# Altium footprint library PCB库.PcbLib: 37 footprints (part 2 of 3)
Each footprint in its own frame and in the unit in brackets; x right, y up, seen from the top. Pads: shape width x height; smd on the part's side, far side on the other; paste and mask are expansions set on the pad; w line width, h text height; cw(c..) or ccw(c..) is an arc to the next point about the centre after c.
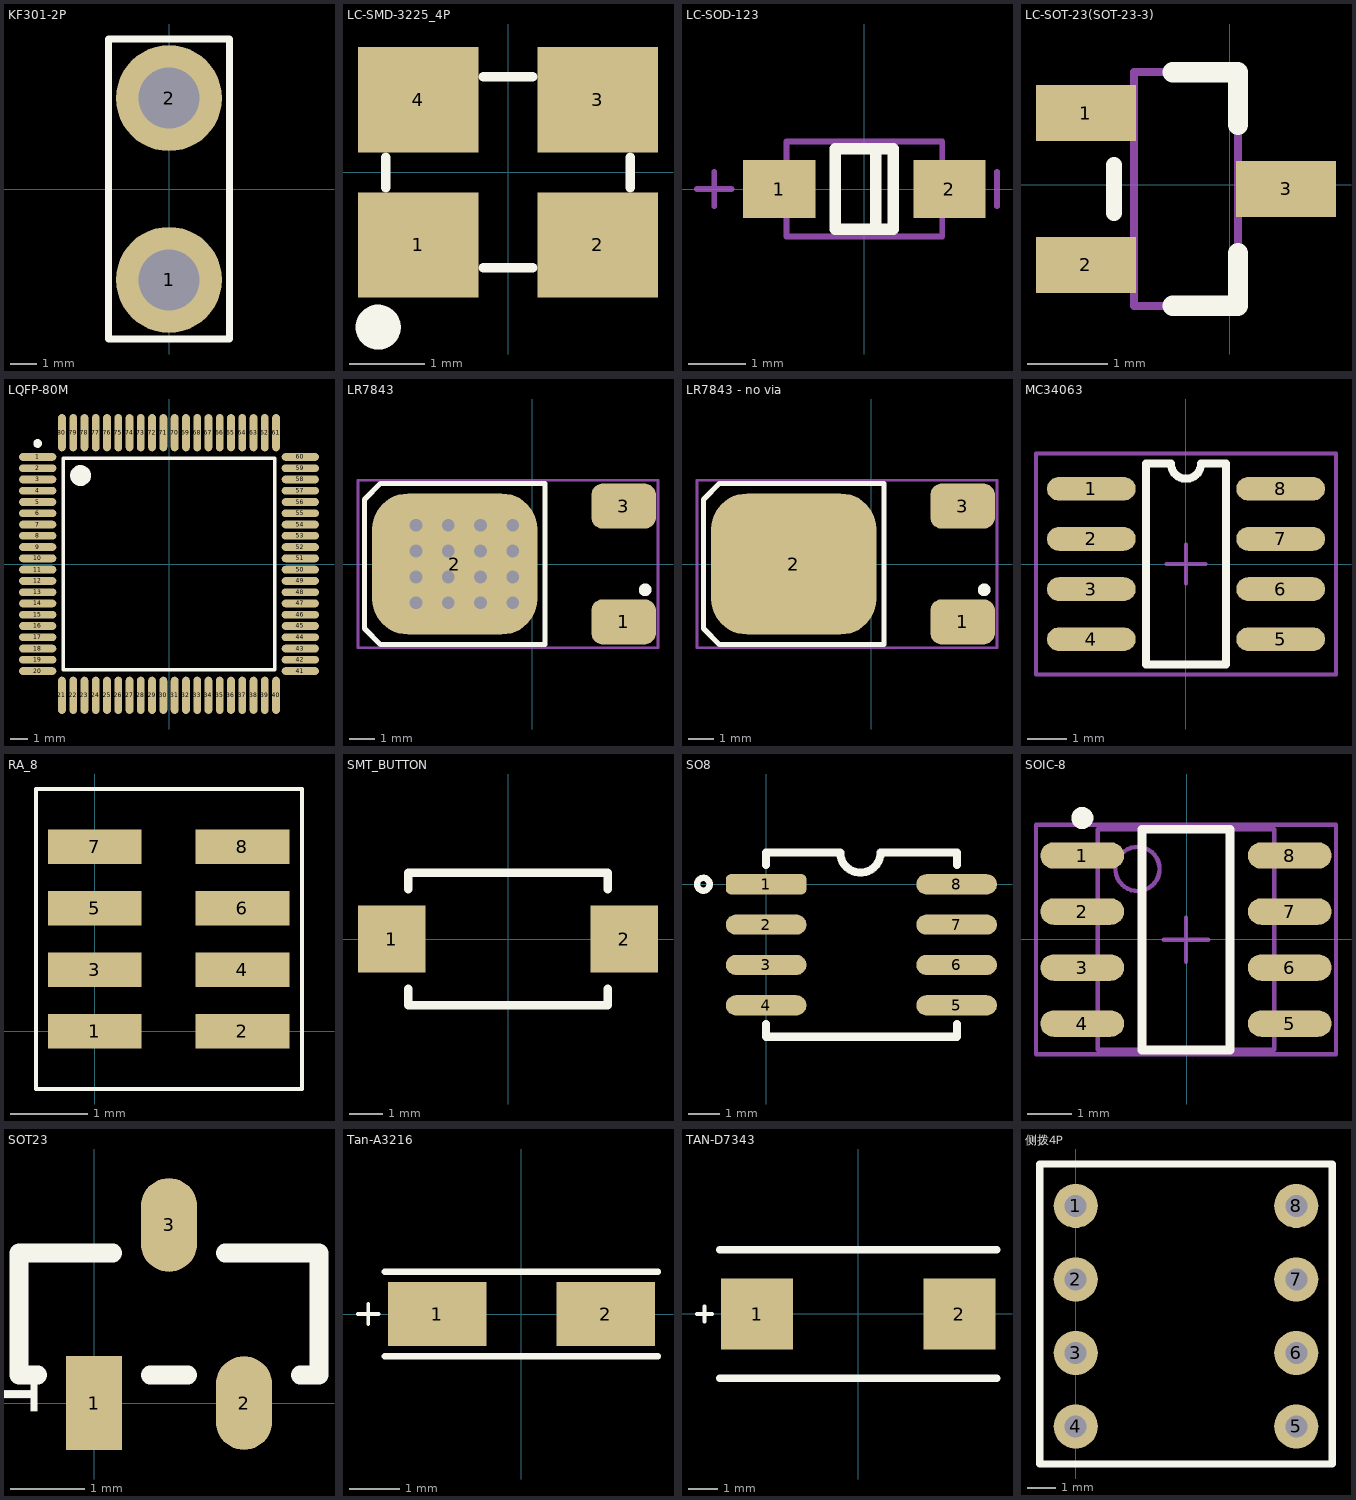
[diagram p1: the footprints below, top view; thin cyan lines are the x and y axes]

## KF301-2P [mm]
pads (2):
  round 4 hole 2.3 paste+0: 1(0,-3.429)
  round 4 hole 2.3: 2(0,3.429)
Top Overlay:
  lines w0.254: -2.286,-5.664 2.286,-5.664 2.286,5.664 -2.286,5.664 -2.286,-5.664

## LC-SMD-3225_4P [mm]
pads (4):
  rect 1.6x1.4 smd: 1(-1.194,-0.965) 2(1.194,-0.965) 3(1.194,0.965) 4(-1.194,0.965)
Top Overlay:
  circle w0.3: c-1.725,-2.057 r0.15
  lines w0.127: -1.626,-0.203 -1.626,0.203 ; -0.33,-1.27 0.33,-1.27 ; -0.33,1.27 0.33,1.27 ; 1.626,-0.203 1.626,0.203
3D body: height 0.61, standoff 0, extent -1.6,-1.25 1.6,1.25

## LC-SOD-123 [mm]
pads (2):
  rect 1.25x1 smd: 1(-1.475,0) 2(1.475,0)
Top Overlay:
  lines w0.2: 0.2,-0.7 0.2,0.7 ; -0.5,-0.7 -0.5,0.7 0.5,0.7 0.5,-0.7 -0.5,-0.7
Mechanical 13:
  lines w0.1: -1.35,-0.825 -1.35,0.825 1.35,0.825 1.35,-0.825 -1.35,-0.825
Mechanical 15:
  lines w0.1: -2.9,0 -2.3,0 ; -2.6,-0.3 -2.6,0.3 ; 2.3,-0.3 2.3,0.3
3D body: height 1.35, standoff 0, extent -1.85,-0.775 1.85,0.775

## LC-SOT-23(SOT-23-3) [mm]
pads (3):
  rect 1.25x0.7 smd: 1(-1.8,0.9) 2(-1.8,-1) 3(0.7,-0.05)
Top Overlay:
  lines w0.2: -1.45,-0.35 -1.45,0.25
  lines w0.254: -0.715,-1.51 0.1,-1.51 ; -0.715,1.41 0.1,1.41 0.1,0.75 ; 0.1,-1.51 0.1,-0.85 ; 0.1,-1.51 0.1,-0.85 ; 0.1,-1.51 0.1,-0.85
Mechanical 13:
  lines w0.1: -1.2,-1.51 -1.2,1.41 ; -1.2,-1.51 0.1,-1.51 ; -1.2,-1.51 0.1,-1.51 ; -1.2,-1.51 -1.2,1.41 ; -1.2,-1.51 0.1,-1.51 ; -1.2,-1.51 -1.2,1.41 ; -1.2,1.41 0.1,1.41 ; -1.2,1.41 0.1,1.41 ; -1.2,1.41 0.1,1.41 ; 0.1,-1.51 0.1,1.41 ; 0.1,-1.51 0.1,1.41 ; 0.1,-1.51 0.1,1.41
3D body: height 1.3, standoff 0, extent -2.05,-1.55 0.95,1.45

## LQFP-80M [mm]
pads (80):
  oval 2.15x0.45 smd: 1(-7.575,6.175) 2(-7.575,5.525) 3(-7.575,4.875) 4(-7.575,4.225) 5(-7.575,3.575) 6(-7.575,2.925) 7(-7.575,2.275) 8(-7.575,1.625) 9(-7.575,0.975) 10(-7.575,0.325) 11(-7.575,-0.325) 12(-7.575,-0.975) 13(-7.575,-1.625) 14(-7.575,-2.275) 15(-7.575,-2.925) 16(-7.575,-3.575) 17(-7.575,-4.225) 18(-7.575,-4.875) 19(-7.575,-5.525) 20(-7.575,-6.175) 41(7.575,-6.175) 42(7.575,-5.525) 43(7.575,-4.875) 44(7.575,-4.225) 45(7.575,-3.575) 46(7.575,-2.925) 47(7.575,-2.275) 48(7.575,-1.625) 49(7.575,-0.975) 50(7.575,-0.325) 51(7.575,0.325) 52(7.575,0.975) 53(7.575,1.625) 54(7.575,2.275) 55(7.575,2.925) 56(7.575,3.575) 57(7.575,4.225) 58(7.575,4.875) 59(7.575,5.525) 60(7.575,6.175)
  oval 0.45x2.15 smd: 21(-6.175,-7.575) 22(-5.525,-7.575) 23(-4.875,-7.575) 24(-4.225,-7.575) 25(-3.575,-7.575) 26(-2.925,-7.575) 27(-2.275,-7.575) 28(-1.625,-7.575) 29(-0.975,-7.575) 30(-0.325,-7.575) 31(0.325,-7.575) 32(0.975,-7.575) 33(1.625,-7.575) 34(2.275,-7.575) 35(2.925,-7.575) 36(3.575,-7.575) 37(4.225,-7.575) 38(4.875,-7.575) 39(5.525,-7.575) 40(6.175,-7.575) 61(6.175,7.575) 62(5.525,7.575) 63(4.875,7.575) 64(4.225,7.575) 65(3.575,7.575) 66(2.925,7.575) 67(2.275,7.575) 68(1.625,7.575) 69(0.975,7.575) 70(0.325,7.575) 71(-0.325,7.575) 72(-0.975,7.575) 73(-1.625,7.575) 74(-2.275,7.575) 75(-2.925,7.575) 76(-3.575,7.575) 77(-4.225,7.575) 78(-4.875,7.575) 79(-5.525,7.575) 80(-6.175,7.575)
Top Overlay:
  circle w0.6: c-5.1,5.1 r0.3
  circle w0.25: c-7.575,6.95 r0.125
  lines w0.2: -6.1,-6.1 6.1,-6.1 6.1,6.1 -6.1,6.1 -6.1,-6.1
3D body: height 1.4, standoff 0.25, extent -7,-7 7,7

## LR7843 [mm]
pads (3):
  rrect50% 2.54x1.778 smd: 1(3.6,-2.28) 3(3.6,2.28)
  rrect50% 6.5x5.55 smd: 2(-3.048,0)
via -0.762,-1.524 diameter 0.8 hole 0.5
via -0.762,-0.508 diameter 0.8 hole 0.5
via -0.762,1.524 diameter 0.8 hole 0.5
via -0.762,0.508 diameter 0.8 hole 0.5
via -3.302,-1.524 diameter 0.8 hole 0.5
via -2.032,-0.508 diameter 0.8 hole 0.5
via -2.032,-1.524 diameter 0.8 hole 0.5
via -2.032,0.508 diameter 0.8 hole 0.5
via -2.032,1.524 diameter 0.8 hole 0.5
via -3.302,-0.508 diameter 0.8 hole 0.5
via -3.302,0.508 diameter 0.8 hole 0.5
via -3.302,1.524 diameter 0.8 hole 0.5
via -4.572,-1.524 diameter 0.8 hole 0.5
via -4.572,-0.508 diameter 0.8 hole 0.5
via -4.572,0.508 diameter 0.8 hole 0.5
via -4.572,1.524 diameter 0.8 hole 0.5
Top Overlay:
  circle w0.25: c4.447,-1.016 r0.125
  lines w0.2: -6.604,-2.54 -6.604,2.54 -5.969,3.175 0.508,3.175 0.508,-3.175 -5.969,-3.175 -6.604,-2.54
Mechanical 15:
  lines w0.1: -1.85,0 -0.85,0 ; -1.35,-0.5 -1.35,0.5 ; -6.858,-3.302 -6.858,3.302 4.953,3.302 4.953,-3.302 -6.858,-3.302

## LR7843 - no via [mm]
pads (3):
  rrect50% 2.54x1.778 smd: 1(3.6,-2.28) 3(3.6,2.28)
  rrect50% 6.5x5.55 smd: 2(-3.048,0)
Top Overlay:
  circle w0.25: c4.447,-1.016 r0.125
  lines w0.2: -6.604,-2.54 -5.969,-3.175 0.508,-3.175 0.508,3.175 -5.969,3.175 -6.604,2.54 -6.604,-2.54
Mechanical 15:
  lines w0.1: -1.85,0 -0.85,0 ; -1.35,-0.5 -1.35,0.5 ; -6.858,-3.302 4.953,-3.302 4.953,3.302 -6.858,3.302 -6.858,-3.302

## MC34063 [mm]
pads (8):
  oval 2.25x0.6 smd: 1(-2.4,1.905) 2(-2.4,0.635) 3(-2.4,-0.635) 4(-2.4,-1.905) 5(2.4,-1.905) 6(2.4,-0.635) 7(2.4,0.635) 8(2.4,1.905)
Top Overlay:
  lines w0.203: -0.395,2.55 -1.016,2.55 -1.016,-2.55 1.016,-2.55 1.016,2.55 0.381,2.55 ; -0.381,2.54 ccw(c0,2.54) 0.381,2.54
Mechanical 15:
  lines w0.1: -0.5,0 0.5,0 ; 0,-0.5 0,0.5 ; -3.8,-2.8 3.8,-2.8 3.8,2.8 -3.8,2.8 -3.8,-2.8

## RA_8 [mm]
pads (8):
  rect 1.22x0.45 smd: 1(0,0) 2(1.92,0) 3(0,0.8) 4(1.92,0.8) 5(0,1.6) 6(1.92,1.6) 7(0,2.4) 8(1.92,2.4)
Top Overlay:
  lines w0.05: -0.762,-0.75 -0.762,3.15 2.692,3.15 2.692,-0.75 -0.762,-0.75

## SMT_BUTTON [mil]
pads (2):
  rect 80x80 smd: 1(-137.8,0) 2(137.8,0)
Top Overlay:
  lines w10: -118.11,-59.06 -118.11,-78.74 118.11,-78.74 118.11,-59.06 ; -118.11,59.06 -118.11,78.74 118.11,78.74 118.11,59.06

## SO8 [mm]
pads (8):
  rrect50% 2.54x0.635 smd: 1(0,0)
  oval 2.54x0.635 smd: 2(0,-1.27) 3(0,-2.54) 4(0,-3.81) 5(5.994,-3.81) 6(5.994,-2.54) 7(5.994,-1.27) 8(5.994,0)
Top Overlay:
  circle w0.2: c-1.978,0 r0.2
  lines w0.254: 0,-4.4 0,-4.8 6,-4.8 6,-4.4 ; 0,0.6 0,1 2.33,1 ccw(c2.965,1) 3.6,1 6,1 6,0.6

## SOIC-8 [mm]
pads (8):
  oval 1.9x0.6 smd: 1(-2.37,1.895) 2(-2.37,0.625) 3(-2.37,-0.645) 4(-2.37,-1.915) 5(2.33,-1.915) 6(2.33,-0.645) 7(2.33,0.625) 8(2.33,1.895)
Top Overlay:
  circle w0.25: c-2.37,2.745 r0.125
  lines w0.2: -1.02,-2.51 -1.02,2.49 0.98,2.49 0.98,-2.51 -1.02,-2.51
Mechanical 13:
  circle w0.1: c-1.12,1.59 r0.5
  lines w0.1: -2.02,-2.51 -2.02,2.49 1.98,2.49 1.98,-2.51 -2.02,-2.51
Mechanical 15:
  lines w0.1: -0.52,-0.01 0.48,-0.01 ; -0.02,-0.51 -0.02,0.49 ; -3.42,-2.61 -3.42,2.59 3.38,2.59 3.38,-2.61 -3.42,-2.61
3D body: height 1.75, standoff 0, extent -2.02,-2.51 1.98,2.49

## SOT23 [mil]
pads (3):
  rect 30x50 smd: 1(0,0)
  oval 30x50 smd: 2(80,0) 3(40,95)
Top Overlay:
  lines w10: -35,80 -30,80 ; -30,15 -40,15 -40,80 -30,80 ; 10,80 -30,80 ; 30,15 50,15 ; 70,80 110,80 115,80 120,80 120,15 110,15
  text "1" at -30,-10 h32

## Tan-A3216 [mm]
pads (2):
  rect 1.965x1.27 smd: 1(-1.676,0) 2(1.676,0)
Top Overlay:
  lines w0.076: -3.251,0 -2.845,0 ; -3.048,-0.203 -3.048,0.203
  lines w0.127: -2.718,-0.838 2.718,-0.838 ; -2.718,0.838 2.718,0.838

## TAN-D7343 [mm]
pads (2):
  rect 2.425x2.41 smd: 1(-3.429,0) 2(3.429,0)
Top Overlay:
  lines w0.127: -5.461,0 -4.953,0 ; -5.207,-0.254 -5.207,0.254
  lines w0.254: -4.699,-2.184 4.699,-2.184 ; -4.699,2.184 4.699,2.184

## 侧拨4P [mil]
pads (8):
  round 60 hole 30: 1(0,-100) 2(0,-200) 3(0,-300) 4(0,-400) 5(300,-400) 6(300,-300) 7(300,-200) 8(300,-100)
Top Overlay:
  lines w10: -49,-451 349,-451 349,-43 -49,-43 -49,-451